# EAGLE library part TA2024 (library Audio-Power-amlifier V.2.0)
The TA2 0 2 4 i s a 1 5 W / c h c o n t i n u o u s a v e r a g e t wo - c h a n n e l C l a s s - T D i g i t a l A u d i o Power A m p l i f i e r I C u s i n g T r i p a t h ’ s p r o p r i e t a r y D i g i t a l P o wer P r o c e s s i n g ™ t e c h n o l o g y. C l a s s - T a m p l i f i e r s o f f e r b o t h t h e a u d i o f i d e l i t y o f C l a s s - A B a n d t h e powe r e f f i c i e n c y o f C l a s s - D a m p l i f i e r s .
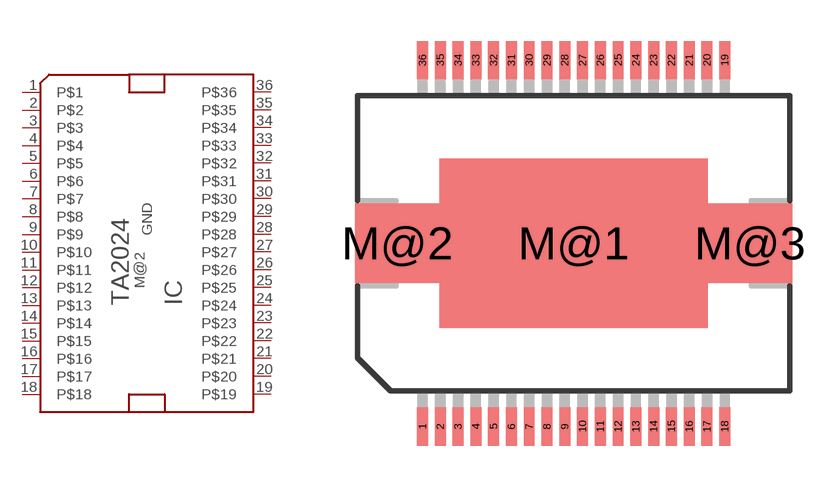
[diagram p91: symbol with the pads of PSOP36_DKD; footprint PSOP36_DKD]

Designator prefix IC

## TA2024  [PSOP36_DKD]
1  P$1
2  P$2
3  P$3
4  P$4
5  P$5
6  P$6
7  P$7
8  P$8
9  P$9
10  P$10
11  P$11
12  P$12
13  P$13
14  P$14
15  P$15
16  P$16
17  P$17
18  P$18
19  P$19
20  P$20
21  P$21
22  P$22
23  P$23
24  P$24
25  P$25
26  P$26
27  P$27
28  P$28
29  P$29
30  P$30
31  P$31
32  P$32
33  P$33
34  P$34
35  P$35
36  P$36
M@2  GND

## Footprint PSOP36_DKD (pad centres in mm)
36-Lead Power Small Ou t l i ne Package ( P S O P ) , s i m i l a r t o JEDEC out l i ne MO- 1 6 6 , var i a t i on AE:f
smd 0.4 x 1.4: 1 -5.525,-6.7; 2 -4.875,-6.7; 3 -4.225,-6.7; 4 -3.575,-6.7; 5 -2.925,-6.7; 6 -2.275,-6.7; 7 -1.625,-6.7; 8 -0.975,-6.7; 9 -0.325,-6.7; 10 0.325,-6.7; 11 0.975,-6.7; 12 1.625,-6.7; 13 2.275,-6.7; 14 2.925,-6.7; 15 3.575,-6.7; 16 4.225,-6.7; 17 4.875,-6.7; 18 5.525,-6.7; 19 5.525,6.7; 20 4.875,6.7; 21 4.225,6.7; 22 3.575,6.7; 23 2.925,6.7; 24 2.275,6.7; 25 1.625,6.7; 26 0.975,6.7; 27 0.325,6.7; 28 -0.325,6.7; 29 -0.975,6.7; 30 -1.625,6.7; 31 -2.275,6.7; 32 -2.925,6.7; 33 -3.575,6.7; 34 -4.225,6.7; 35 -4.875,6.7; 36 -5.525,6.7
smd 9.8 x 6.2: M@1 0,0
smd 3.1 x 2.9: M@2 -6.45,0; M@3 6.45,0